# EAGLE library part 70246-2001 (library 70246-2001)
Headers & Wire Housings 20CKT SHRD HDR Source: Datasheet <https://componentsearchengine.com/Datasheets/2/70246-2001.pdf>
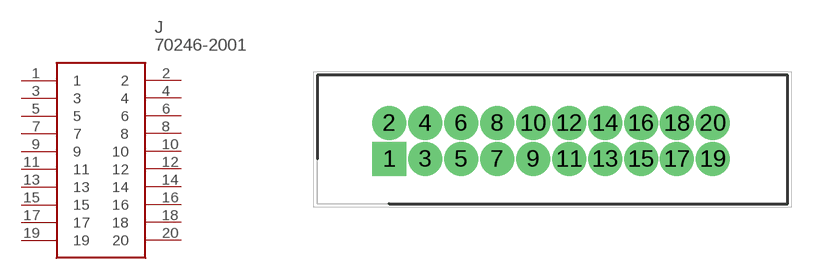
[diagram p0: symbol with the pads of SHDR20W99P254_2X10_3302X889X94; footprint SHDR20W99P254_2X10_3302X889X94]

Designator prefix J

## 70246-2001 (Description: Headers & Wire Housings 20CKT SHRD HDR; Height: 9.47mm; Manufacturer_Name: Molex; Manufacturer_Part_Number: 70246-2001; Mouser_Part_Number: 538-70246-2001; Mouser_Price-Stock: https://www.mouser.co.uk/ProductDetail/Molex/70246-2001?qs=L7RdmAxh%252BcMgmUPcB5dMoQ%3D%3D)  [SHDR20W99P254_2X10_3302X889X94]
1  1
2  2
3  3
4  4
5  5
6  6
7  7
8  8
9  9
10  10
11  11
12  12
13  13
14  14
15  15
16  16
17  17
18  18
19  19
20  20

## Footprint SHDR20W99P254_2X10_3302X889X94 (pad centres in mm)
70246-2001
drill 1.6 pad 2.4 square: 1 0,0
drill 1.6 pad 2.4: 2 0,2.54; 3 2.54,0; 4 2.54,2.54; 5 5.08,0; 6 5.08,2.54; 7 7.62,0; 8 7.62,2.54; 9 10.16,0; 10 10.16,2.54; 11 12.7,0; 12 12.7,2.54; 13 15.24,0; 14 15.24,2.54; 15 17.78,0; 16 17.78,2.54; 17 20.32,0; 18 20.32,2.54; 19 22.86,0; 20 22.86,2.54